# EAGLE library part IDC_50PIN (library ARVP_07-15-13)
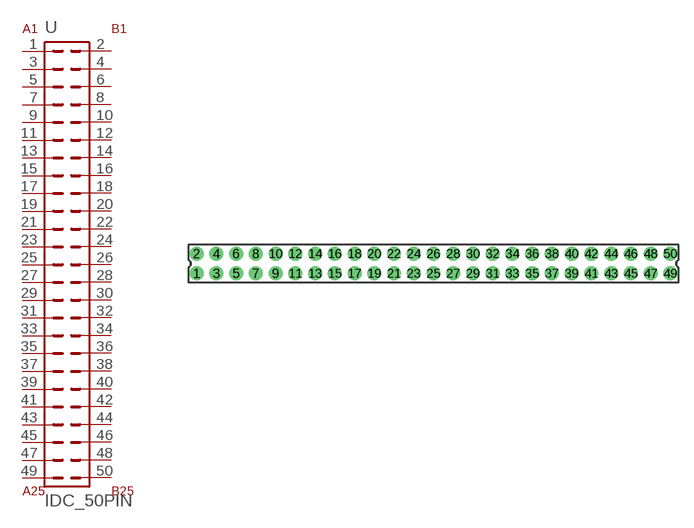
[diagram p13: symbol with the pads of 50PIN-IDC; footprint 50PIN-IDC]

Designator prefix -

## IDC_50PIN  [50PIN-IDC]
1  A1  pas
2  B1  pas
3  A2  pas
4  B2  pas
5  A3  pas
6  B3  pas
7  A4  pas
8  B4  pas
9  A5  pas
10  B5  pas
11  A6  pas
12  B6  pas
13  A7  pas
14  B7  pas
15  A8  pas
16  B8  pas
17  A9  pas
18  B9  pas
19  A10  pas
20  B10  pas
21  A11  pas
22  B11  pas
23  A12  pas
24  B12  pas
25  A13  pas
26  B13  pas
27  A14  pas
28  B14  pas
29  A15  pas
30  B15  pas
31  A16  pas
32  B16  pas
33  A17  pas
34  B17  pas
35  A18  pas
36  B18  pas
37  A19  pas
38  B19  pas
39  A20  pas
40  B20  pas
41  A21  pas
42  B21  pas
43  A22  pas
44  B22  pas
45  A23  pas
46  B23  pas
47  A24  pas
48  B24  pas
49  A25  pas
50  B25  pas

## Footprint 50PIN-IDC (pad centres in mm)
drill 0.9 pad 1.27 round: 1 -22.73,-1; 2 -22.73,1; 3 -20.73,-1; 4 -20.73,1; 5 -18.73,-1; 6 -18.73,1; 7 -16.73,-1; 8 -16.73,1; 9 -14.73,-1; 10 -14.73,1; 11 -12.73,-1; 12 -12.73,1; 13 -10.73,-1; 14 -10.73,1; 15 -8.73,-1; 16 -8.73,1; 17 -6.73,-1; 18 -6.73,1; 19 -4.73,-1; 20 -4.73,1; 21 -2.73,-1; 22 -2.73,1; 23 -0.73,-1; 24 -0.73,1; 25 1.27,-1; 26 1.27,1; 27 3.27,-1; 28 3.27,1; 29 5.27,-1; 30 5.27,1; 31 7.27,-1; 32 7.27,1; 33 9.27,-1; 34 9.27,1; 35 11.27,-1; 36 11.27,1; 37 13.27,-1; 38 13.27,1; 39 15.27,-1; 40 15.27,1; 41 17.27,-1; 42 17.27,1; 43 19.27,-1; 44 19.27,1; 45 21.27,-1; 46 21.27,1; 47 23.27,-1; 48 23.27,1; 49 25.27,-1; 50 25.27,1